# EAGLE library part 43045-1600 (library con-molex-micro-fit)
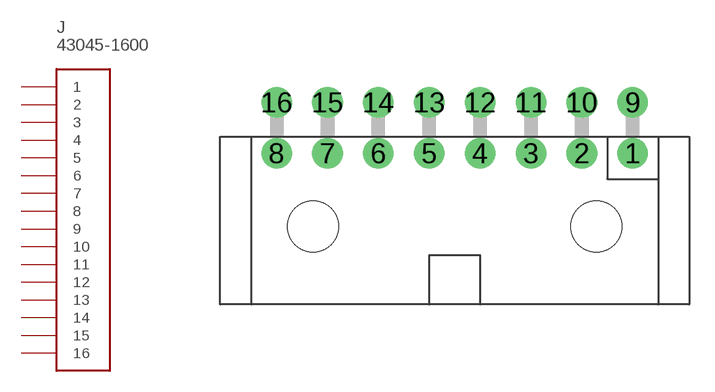
[diagram p1: symbol with the pads of 43045-1600; footprint 43045-1600]

Designator prefix J

## 43045-1600  [43045-1600]
1  1
2  2
3  3
4  4
5  5
6  6
7  7
8  8
9  9
10  10
11  11
12  12
13  13
14  14
15  15
16  16

## Footprint 43045-1600 (pad centres in mm)
drill 1.2: 1 10.5,0; 2 7.5,0; 3 4.5,0; 4 1.5,0; 5 -1.5,0; 6 -4.5,0; 7 -7.5,0; 8 -10.5,0; 9 10.5,3; 10 7.5,3; 11 4.5,3; 12 1.5,3; 13 -1.5,3; 14 -4.5,3; 15 -7.5,3; 16 -10.5,3
hole 3 at -8.35,-4.32
hole 3 at 8.35,-4.32